# Altium schematic symbol library Switch.SchLib: 1 symbol
Pins are listed as number, name and electrical type; pins without a type are passive.

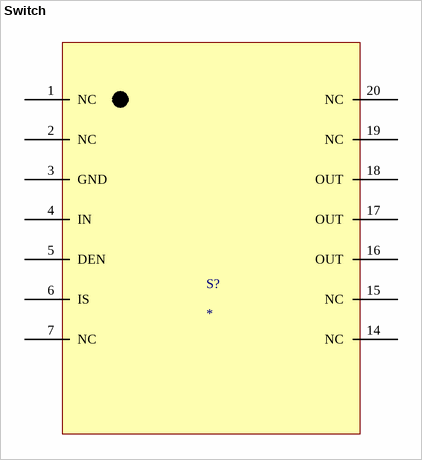
[diagram p0: symbol Switch]

## Switch
designator S?
pins: 1 NC, 2 NC, 3 GND, 4 IN, 5 DEN, 6 IS, 7 NC, 14 NC, 15 NC, 16 OUT, 17 OUT, 18 OUT, 19 NC, 20 NC